# Altium footprint library Passivos_Ftp.PcbLib: 33 footprints (part 1 of 3)
Each footprint in its own frame and in the unit in brackets; x right, y up, seen from the top. Pads: shape width x height; smd on the part's side, far side on the other; paste and mask are expansions set on the pad; w line width, h text height; cw(c..) or ccw(c..) is an arc to the next point about the centre after c.
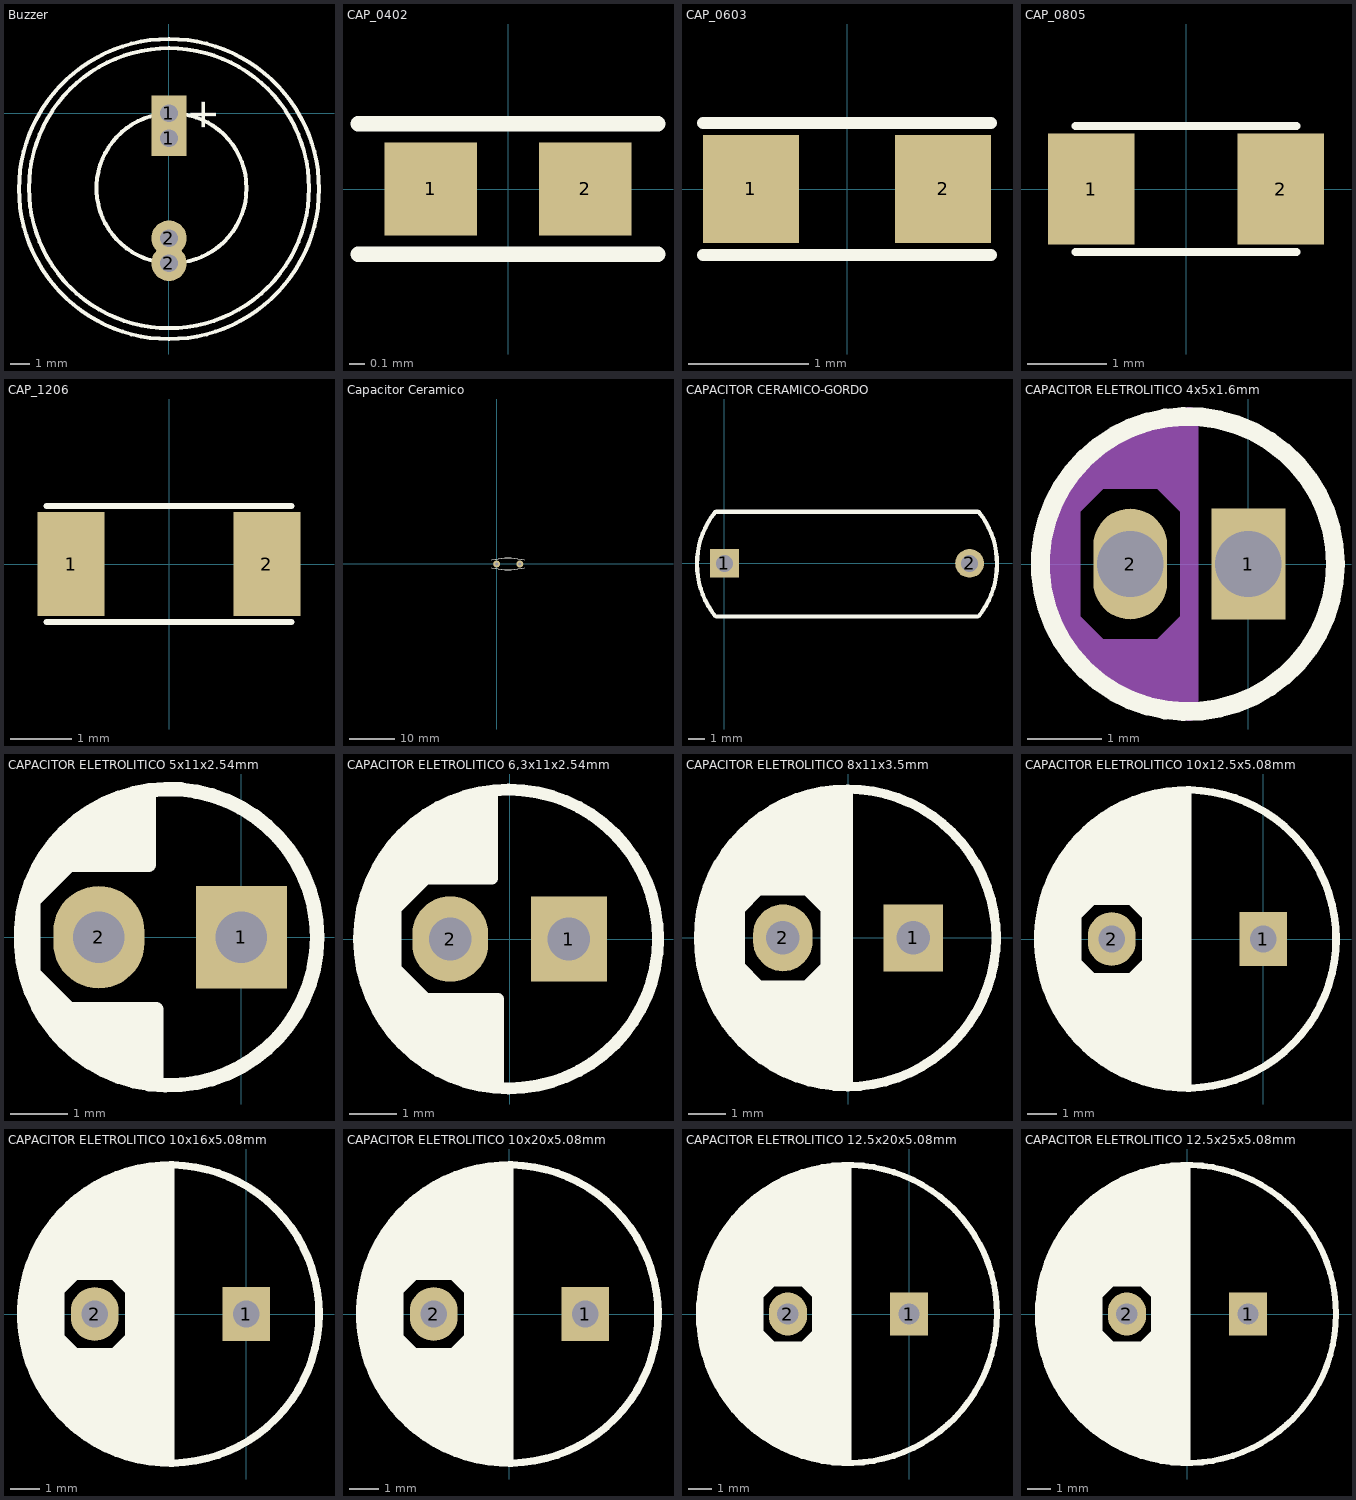
[diagram p0: the footprints below, top view; thin cyan lines are the x and y axes]

## Buzzer [mm]
pads (4):
  rect 1.8x1.8 hole 0.9: 1(0,-1.27) 1(0,0)
  round 1.8 hole 0.9: 2(0,-7.62) 2(0,-6.35)
Top Overlay:
  circle w0.2: c0.127,-3.81 r3.81
  circle w0.2: c0,-3.81 r7.112
  circle w0.2: c0,-3.85 r7.62
  text "+" at 1.1,0.79 h1.5
3D body: height 9.65, standoff -4.5, extent -6,-9.937 6,5.517

## CAP_0402 [mm] "Chip Capacitor, Body 1.0x0.5mm, IPC High Density"
height 1.3
pads (2):
  rect 0.6x0.6 smd: 1(-0.5,0) 2(0.5,0)
Top Overlay:
  lines w0.1: -0.97,-0.423 0.97,-0.423 ; -0.97,0.423 0.97,0.423
3D body: height 0.36, standoff 0, extent -0.5,-0.265 0.5,0.265

## CAP_0603 [mm]
pads (2):
  rect 0.8x0.9 smd: 1(-0.8,0) 2(0.8,0)
Top Overlay:
  lines w0.1: -1.2,-0.55 1.2,-0.55 ; -1.2,0.55 1.2,0.55
3D body: height 0.9, standoff 0, extent -0.8,-0.4 0.8,0.4

## CAP_0805 [mm]
pads (2):
  rect 1.1x1.4 smd: 1(-1.2,0) 2(1.2,0)
Top Overlay:
  lines w0.1: -1.4,-0.8 1.4,-0.8 ; -1.4,0.8 1.4,0.8
3D body: height 1, standoff 0, extent -1,-0.625 1,0.625

## CAP_1206 [mm]
pads (2):
  rect 1.1x1.7 smd: 1(-1.6,0) 2(1.6,0)
Top Overlay:
  lines w0.1: -2,-0.95 2,-0.95 ; -2,0.95 2,0.95
3D body: height 1, standoff 0, extent -1.6,-0.8 1.6,0.8

## Capacitor Ceramico [mil]
pads (2):
  round 60 hole 30: 1(0,0) 2(200,0)
Top Overlay:
  lines w10: -41.42,-33.49 ccw(c97.96,623.02) 237.8,-33.39 ; -41.42,33.49 cw(c97.96,-623.06) 237.8,33.39
3D body: height 267.72, standoff -66.93, extent -37.44,-33.39 237.8,33.39

## CAPACITOR CERAMICO-GORDO [mil]
pads (2):
  rect 70x70 hole 42: 1(0,0)
  round 70 hole 42: 2(598.43,0)
Top Overlay:
  lines w10: -22.65,125.43 ccw(c137.01,-1.57) -22.43,-128.85 ; -19.68,-129.92 618.11,-129.92 ; -19.68,125.98 618.11,125.98 ; 620.86,-128.85 ccw(c461.42,-1.57) 621.08,125.43
3D body: height 472.44, standoff 19.68, extent -68.9,-127.95 669.29,118.11

## CAPACITOR ELETROLITICO 4x5x1.6mm [mm] "Radial Capacitor 4x5x1.5mm"
height 5
pads (2):
  rect 1x1.5 hole 0.9: 1(0,0)
  oval 1x1.5 hole 0.9: 2(-1.6,0)
Top Overlay:
  circle w0.254: c-0.82,0 r2
Mechanical 1:
  region: -1.181,1.143 -2.019,1.143 -2.4,0.762 -2.4,-0.762 -2.019,-1.143 -1.181,-1.143 -0.8,-0.762 -0.8,-2 -0.832,-2.032 -1.346,-2.032 -1.6,-1.778 -1.854,-1.778 -2.616,-1.016 -2.616,-0.762 -2.743,-0.635 -2.743,-0.508 -2.87,-0.381 -2.799,-0.31 -2.799,0.452 -2.743,0.508 -2.743,0.635 -2.616,0.762 -2.616,1.016 -1.854,1.778 -1.727,1.778 -1.6,1.905 -1.346,1.905 -1.219,2.032 -0.832,2.032 -0.8,2 -0.916,1.784 -0.838,1.397 -0.8,0.762
  lines w0.254: -0.8,-2 -0.8,2 ; -0.8,-0.762 -1.181,-1.143 -2.019,-1.143 -2.4,-0.762 -2.4,0.762 -2.019,1.143 -1.181,1.143 -0.8,0.762
3D body: height 5.2, standoff -1.3, extent -2.799,-2 1.199,1.994

## CAPACITOR ELETROLITICO 5x11x2.54mm [mm] "Radial Capacitor 5x11x2.54mm"
height 11
pads (2):
  rect 1.6x1.8 hole 0.9: 1(0,0)
  oval 1.6x1.8 hole 0.9: 2(-2.5,0)
Top Overlay:
  circle w0.254: c-1.27,0 r2.6
  region: -1.495,-1.266 -3.019,-1.266 -3.654,-0.631 -3.654,-1.012 -3.527,-1.139 -3.527,-1.393 -3.019,-1.901 -3.019,-2.028 -2.369,-2.297 -2.13,-2.536 -1.622,-2.536 -1.495,-2.663
  region: -1.622,2.544 -1.622,1.274 -3.019,1.274 -3.654,0.639 -3.654,1.147 -3.4,1.401 -3.4,1.528 -2.511,2.417 -2.003,2.417 -1.876,2.544
  lines w0.254: -1.622,2.544 -1.622,1.274 -3.019,1.274 -3.654,0.639 -3.654,-0.631 -3.019,-1.266 -1.495,-1.266 -1.495,-2.54
3D body: height 11.53, standoff -3.27, extent -3.775,-2.525 1.275,2.525

## CAPACITOR ELETROLITICO 6,3x11x2.54mm [mm] "Radial Capacitor 6,35x11x2.54mm"
height 11
pads (2):
  rect 1.6x1.8 hole 0.9: 1(1.25,0)
  oval 1.6x1.8 hole 0.9: 2(-1.25,0)
Top Overlay:
  circle w0.254: c-0.02,0 r3.15
  region: -0.245,-3.048 -0.245,-1.266 -1.769,-1.266 -2.404,-0.631 -2.404,0.639 -1.769,1.274 -0.372,1.274 -0.372,3.048 -1.036,3.048 -1.29,2.794 -1.544,2.794 -1.798,2.54 -1.925,2.54 -2.687,1.778 -2.687,1.651 -2.814,1.524 -2.814,1.27 -3.068,1.016 -3.068,0.508 -3.195,0.381 -3.195,-0.381 -3.068,-0.508 -3.068,-0.889 -2.941,-1.016 -2.941,-1.27 -2.687,-1.524 -2.687,-1.778 -1.798,-2.667 -1.671,-2.667 -1.417,-2.921 -1.417,-2.794 -1.29,-2.794 -1.036,-3.048
  lines w0.254: -0.372,3.048 -0.372,1.274 -1.769,1.274 -2.404,0.639 -2.404,-0.631 -1.769,-1.266 -0.245,-1.266 -0.245,-3.048
3D body: height 11.33, standoff -3.21, extent -3.176,-3.176 3.175,3.175

## CAPACITOR ELETROLITICO 8x11x3.5mm [mm] "Radial Capacitor 8x11x3.5mm"
height 11
pads (2):
  rect 1.6x1.8 hole 0.9: 1(1.75,0)
  oval 1.6x1.8 hole 0.9: 2(-1.75,0)
Top Overlay:
  circle w0.254: c-0.02,0 r4
  region: -0.607,0.762 -0.607,-0.762 0,-0.762 0,0.889 -0.734,0.889
  region: 0,-4 0,-0.762 -0.607,-0.762 -1.115,-1.27 -2.385,-1.27 -2.893,-0.762 -2.893,0.762 -2.385,1.27 -1.115,1.27 -0.607,0.762 0,0.762 0,4 -0.671,4 -0.734,3.937 -1.115,3.937 -1.369,3.683 -1.75,3.683 -2.131,3.302 -2.385,3.302 -3.147,2.54 -3.147,2.413 -3.401,2.159 -3.401,2.032 -3.655,1.778 -3.655,1.651 -3.782,1.524 -3.782,1.143 -3.909,1.016 -3.909,0.508 -4.036,0.381 -4.036,-0.381 -3.909,-0.508 -3.909,-1.143 -3.782,-1.27 -3.782,-1.524 -3.528,-1.778 -3.528,-2.032 -3.147,-2.413 -3.147,-2.54 -2.512,-3.175 -2.385,-3.175 -2.131,-3.429 -2.004,-3.429 -1.75,-3.683 -1.496,-3.683 -1.369,-3.81 -1.115,-3.81 -0.988,-3.937 -0.607,-3.937 -0.48,-4.064 -0.416,-4
  lines w0.254: 0,-4 0,4 ; -2.893,-0.762 -2.385,-1.27 -1.115,-1.27 -0.607,-0.762 -0.607,0.762 -1.115,1.27 -2.385,1.27 -2.893,0.762 -2.893,-0.762
3D body: height 11.85, standoff -3.66, extent -4.025,-4.025 4.025,4.025

## CAPACITOR ELETROLITICO 10x12.5x5.08mm [mm] "Radial Capacitor 10x12x5.08mm"
height 12.5
pads (2):
  rect 1.6x1.8 hole 0.9: 1(0,0)
  oval 1.6x1.8 hole 0.9: 2(-5.08,0)
Top Overlay:
  circle w0.254: c-2.56,0 r5
  region: -2.54,-5 -2.54,0 -3.937,0 -3.937,-0.762 -4.445,-1.27 -5.715,-1.27 -6.223,-0.762 -6.223,0.762 -5.715,1.27 -4.445,1.27 -3.937,0.762 -3.937,0 -2.54,0 -2.54,5 -2.587,4.953 -3.556,4.953 -3.683,4.826 -4.064,4.826 -4.191,4.699 -4.318,4.699 -4.445,4.572 -4.699,4.572 -4.953,4.318 -5.08,4.318 -5.207,4.191 -5.334,4.191 -5.588,3.937 -5.715,3.937 -6.477,3.175 -6.477,3.048 -6.858,2.667 -6.858,2.413 -6.985,2.413 -7.112,2.286 -7.112,1.905 -7.239,1.905 -7.239,1.651 -7.366,1.524 -7.366,1.143 -7.493,1.016 -7.493,0.508 -7.62,0.381 -7.62,-0.381 -7.493,-0.508 -7.493,-1.143 -7.239,-1.397 -7.239,-1.905 -6.985,-2.159 -6.985,-2.413 -6.731,-2.667 -6.731,-2.794 -6.223,-3.302 -6.223,-3.429 -5.588,-4.064 -5.461,-4.064 -5.207,-4.318 -4.953,-4.318 -4.699,-4.572 -4.572,-4.572 -4.445,-4.699 -4.191,-4.699 -4.064,-4.826 -3.683,-4.826 -3.556,-4.953 -2.921,-4.953 -2.874,-5
  lines w0.254: -2.54,-5 -2.54,5 ; -6.223,-0.762 -5.715,-1.27 -4.445,-1.27 -3.937,-0.762 -3.937,0.762 -4.445,1.27 -5.715,1.27 -6.223,0.762 -6.223,-0.762
3D body: height 12.85, standoff -3.66, extent -7.565,-5.025 2.485,5.025

## CAPACITOR ELETROLITICO 10x16x5.08mm [mm] "Radial Capacitor 10x16x5.08mm"
height 16
pads (2):
  rect 1.6x1.8 hole 0.9: 1(0,0)
  oval 1.6x1.8 hole 0.9: 2(-5.08,0)
Top Overlay:
  circle w0.254: c-2.56,0 r5
  region: -2.54,-5 -2.54,0 -3.937,0 -3.937,-0.762 -4.445,-1.27 -5.715,-1.27 -6.223,-0.762 -6.223,0.762 -5.715,1.27 -4.445,1.27 -3.937,0.762 -3.937,0 -2.54,0 -2.54,5 -2.587,4.953 -3.556,4.953 -3.683,4.826 -4.064,4.826 -4.191,4.699 -4.318,4.699 -4.445,4.572 -4.699,4.572 -4.953,4.318 -5.08,4.318 -5.207,4.191 -5.334,4.191 -5.588,3.937 -5.715,3.937 -6.477,3.175 -6.477,3.048 -6.858,2.667 -6.858,2.413 -6.985,2.413 -7.112,2.286 -7.112,1.905 -7.239,1.905 -7.239,1.651 -7.366,1.524 -7.366,1.143 -7.493,1.016 -7.493,0.508 -7.62,0.381 -7.62,-0.381 -7.493,-0.508 -7.493,-1.143 -7.239,-1.397 -7.239,-1.905 -6.985,-2.159 -6.985,-2.413 -6.731,-2.667 -6.731,-2.794 -6.223,-3.302 -6.223,-3.429 -5.588,-4.064 -5.461,-4.064 -5.207,-4.318 -4.953,-4.318 -4.699,-4.572 -4.572,-4.572 -4.445,-4.699 -4.191,-4.699 -4.064,-4.826 -3.683,-4.826 -3.556,-4.953 -2.921,-4.953 -2.874,-5
  lines w0.254: -2.54,-5 -2.54,5 ; -6.223,-0.762 -6.223,0.762 -5.715,1.27 -4.445,1.27 -3.937,0.762 -3.937,-0.762 -4.445,-1.27 -5.715,-1.27 -6.223,-0.762
3D body: height 16.53, standoff -3.74, extent -7.565,-5.025 2.485,5.025

## CAPACITOR ELETROLITICO 10x20x5.08mm [mm] "Radial Capacitor 10x20x5.08mm"
height 20
pads (2):
  rect 1.6x1.8 hole 0.9: 1(2.54,0)
  oval 1.6x1.8 hole 0.9: 2(-2.54,0)
Top Overlay:
  circle w0.254: c-0.02,0 r5
  region: 0,-5 0,0 -1.397,0 -1.397,-0.762 -1.905,-1.27 -3.175,-1.27 -3.683,-0.762 -3.683,0.762 -3.175,1.27 -1.905,1.27 -1.397,0.762 -1.397,0 0,0 0,5 -0.047,4.953 -1.016,4.953 -1.143,4.826 -1.524,4.826 -1.651,4.699 -1.778,4.699 -1.905,4.572 -2.159,4.572 -2.413,4.318 -2.54,4.318 -2.667,4.191 -2.794,4.191 -3.048,3.937 -3.175,3.937 -3.937,3.175 -3.937,3.048 -4.318,2.667 -4.318,2.413 -4.445,2.413 -4.572,2.286 -4.572,1.905 -4.699,1.905 -4.699,1.651 -4.826,1.524 -4.826,1.143 -4.953,1.016 -4.953,0.508 -5.08,0.381 -5.08,-0.381 -4.953,-0.508 -4.953,-1.143 -4.699,-1.397 -4.699,-1.905 -4.445,-2.159 -4.445,-2.413 -4.191,-2.667 -4.191,-2.794 -3.683,-3.302 -3.683,-3.429 -3.048,-4.064 -2.921,-4.064 -2.667,-4.318 -2.413,-4.318 -2.159,-4.572 -2.032,-4.572 -1.905,-4.699 -1.651,-4.699 -1.524,-4.826 -1.143,-4.826 -1.016,-4.953 -0.381,-4.953 -0.334,-5
  lines w0.254: 0,-5 0,5 ; -3.683,-0.762 -3.175,-1.27 -1.905,-1.27 -1.397,-0.762 -1.397,0.762 -1.905,1.27 -3.175,1.27 -3.683,0.762 -3.683,-0.762
3D body: height 20.35, standoff -3.92, extent -5.025,-5.025 5.025,5.025

## CAPACITOR ELETROLITICO 12.5x20x5.08mm [mm] "Radial Capacitor 12.5x20x5.08mm"
height 20
pads (2):
  rect 1.6x1.8 hole 0.9: 1(0,0)
  oval 1.6x1.8 hole 0.9: 2(-5.08,0)
Top Overlay:
  circle w0.254: c-2.56,0 r6.25
  region: -2.54,-6.25 -2.54,0 -3.937,0 -3.937,-0.762 -4.445,-1.27 -5.715,-1.27 -6.223,-0.762 -6.223,0.762 -5.715,1.27 -4.445,1.27 -3.937,0.762 -3.937,0 -2.54,0 -2.54,6.25 -2.567,6.223 -3.556,6.223 -3.683,6.096 -4.191,6.096 -4.318,5.969 -4.699,5.969 -4.953,5.715 -5.207,5.715 -5.461,5.461 -5.715,5.461 -5.969,5.207 -6.096,5.207 -6.35,4.953 -6.477,4.953 -6.604,4.826 -6.604,4.699 -6.731,4.572 -6.858,4.572 -7.366,4.064 -7.366,3.937 -7.747,3.556 -7.747,3.429 -8.001,3.175 -8.001,3.048 -8.128,2.921 -8.128,2.794 -8.255,2.667 -8.255,2.54 -8.382,2.413 -8.382,2.159 -8.509,2.032 -8.509,1.778 -8.636,1.651 -8.636,1.27 -8.763,1.143 -8.763,0.381 -8.89,0.254 -8.89,-0.508 -8.763,-0.635 -8.763,-1.016 -8.636,-1.143 -8.636,-1.651 -8.509,-1.778 -8.509,-2.159 -8.255,-2.413 -8.255,-2.667 -8.001,-2.921 -8.001,-3.175 -7.747,-3.429 -7.747,-3.556 -7.493,-3.81 -7.493,-3.937 -6.35,-5.08 -6.223,-5.08 -6.096,-5.207 -5.969,-5.207 -5.715,-5.461 -5.588,-5.461 -5.461,-5.588 -5.334,-5.588 -5.207,-5.715 -5.08,-5.715 -4.953,-5.842 -4.699,-5.842 -4.572,-5.969 -4.318,-5.969 -4.191,-6.096 -3.81,-6.096 -3.683,-6.223 -3.302,-6.223 -3.275,-6.25
  lines w0.254: -2.54,-6.25 -2.54,6.25 ; -6.223,-0.762 -5.715,-1.27 -4.445,-1.27 -3.937,-0.762 -3.937,0.762 -4.445,1.27 -5.715,1.27 -6.223,0.762 -6.223,-0.762
3D body: height 20.12, standoff -2.9, extent -8.8,-6.25 3.71,6.25

## CAPACITOR ELETROLITICO 12.5x25x5.08mm [mm] "Radial Capacitor 12.5x25x5.08mm"
height 25
pads (2):
  rect 1.6x1.8 hole 0.9: 1(2.54,0)
  oval 1.6x1.8 hole 0.9: 2(-2.54,0)
Top Overlay:
  circle w0.254: c-0.02,0 r6.25
  region: 0,-6.25 0,0 -1.397,0 -1.397,-0.762 -1.905,-1.27 -3.175,-1.27 -3.683,-0.762 -3.683,0.762 -3.175,1.27 -1.905,1.27 -1.397,0.762 -1.397,0 0,0 0,6.25 -0.027,6.223 -1.016,6.223 -1.143,6.096 -1.651,6.096 -1.778,5.969 -2.159,5.969 -2.413,5.715 -2.667,5.715 -2.921,5.461 -3.175,5.461 -3.429,5.207 -3.556,5.207 -3.81,4.953 -3.937,4.953 -4.064,4.826 -4.064,4.699 -4.191,4.572 -4.318,4.572 -4.826,4.064 -4.826,3.937 -5.207,3.556 -5.207,3.429 -5.461,3.175 -5.461,3.048 -5.588,2.921 -5.588,2.794 -5.715,2.667 -5.715,2.54 -5.842,2.413 -5.842,2.159 -5.969,2.032 -5.969,1.778 -6.096,1.651 -6.096,1.27 -6.223,1.143 -6.223,0.381 -6.35,0.254 -6.35,-0.508 -6.223,-0.635 -6.223,-1.016 -6.096,-1.143 -6.096,-1.651 -5.969,-1.778 -5.969,-2.159 -5.715,-2.413 -5.715,-2.667 -5.461,-2.921 -5.461,-3.175 -5.207,-3.429 -5.207,-3.556 -4.953,-3.81 -4.953,-3.937 -3.81,-5.08 -3.683,-5.08 -3.556,-5.207 -3.429,-5.207 -3.175,-5.461 -3.048,-5.461 -2.921,-5.588 -2.794,-5.588 -2.667,-5.715 -2.54,-5.715 -2.413,-5.842 -2.159,-5.842 -2.032,-5.969 -1.778,-5.969 -1.651,-6.096 -1.27,-6.096 -1.143,-6.223 -0.762,-6.223 -0.735,-6.25
  lines w0.254: 0,-6.25 0,6.25 ; -3.683,-0.762 -3.175,-1.27 -1.905,-1.27 -1.397,-0.762 -1.397,0.762 -1.905,1.27 -3.175,1.27 -3.683,0.762 -3.683,-0.762
3D body: height 25, standoff -3.3, extent -6.252,-6.236 6.25,6.236